# Altium schematic symbol library Passives.SchLib: 35 symbols
Pins are listed as number, name and electrical type; pins without a type are passive.

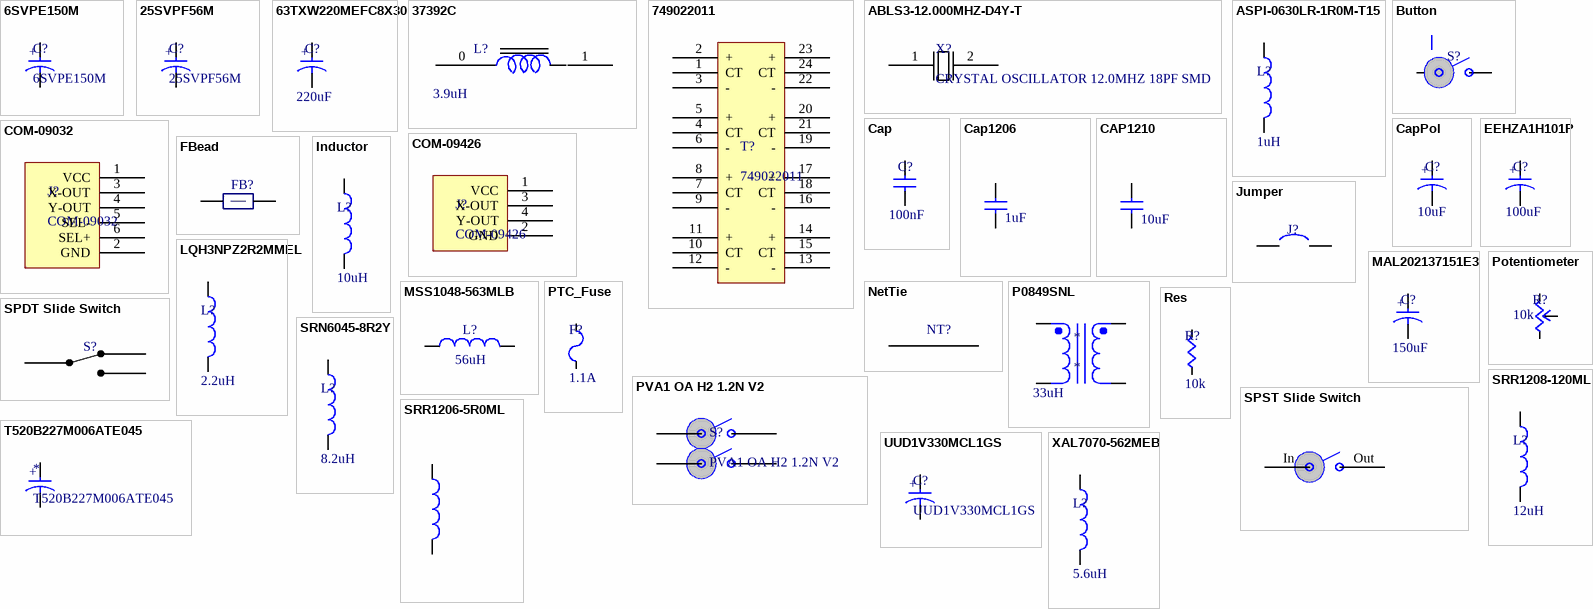
[diagram p0: symbols 6SVPE150M to XAL7070-562MEB]

## 6SVPE150M
designator C?
CAP POLYMER 150UF 20% 6.3V SMD; Manufacturer 1: Panasonic Electronic Components; Supplier 1: Digi-Key; Manufacturer Part Number 1: 6SVPE150M; Supplier Part Number 1: P16614CT-ND
footprint 6SVPE150M (CAP POLYMER 150UF 20% 6.3V SMD)
footprint PCV1J560MCL2GS
pins: 1 A, 2 B
text: +

## 25SVPF56M
designator C?
CAP POLYMER 56UF 20% 25V SMD; Manufacturer 1: Panasonic Electronic Components; Supplier 1: Digi-Key; Manufacturer Part Number 1: 25SVPF56M; Supplier Part Number 1: P16514CT-ND
footprint 25SVPF56M (CAP POLYMER 56UF 20% 25V SMD)
pins: 1 A, 2 B
text: +

## 63TXW220MEFC8X30
designator C?  value 220uF  (hidden comment: *)
CAP ALUM 220UF 63V 20% RADIAL; Supplier 1: Digi-Key; Supplier Part Number 1: 1189-1484-ND
footprint 63TXW220MEFC8X30
footprint 63TXW220MEFC8X30_inverted
pins: +, -

## 37392C
designator L?  (value not drawn)
INDUCTOR 3.90UH 10.0A SMD; Supplier 1: Digi-Key; Supplier Part Number 1: 811-2518-1-ND
footprint 37392C (INDUCTOR 3.90UH 10.0A SMD)
footprint 732-1247-1-ND (FIXED IND 68UH 3.2A 89 MOHM SMD)
footprint 732-1247-1-ND (FIXED IND 68UH 3.2A 89 MOHM SMD)
pins: 0, 1
text: 3.9uH

## 749022011
designator T?
TRANSFORMER LAN 10/100/1000 POE; Manufacturer 1: Wurth Electronics; Manufacturer Part Number 1: 749022011; Supplier 1: Digi-Key; Supplier Part Number 1: 732-3271-1-ND
footprint 749022011 (TRANSFORMER LAN 10/100/1000 POE)
pins: 1 CT, 2 +, 3 -, 4 CT, 5 +, 6 -, 7 CT, 8 +, 9 -, 10 CT, 11 +, 12 -, 13 -, 14 +, 15 CT, 16 -, 17 +, 18 CT, 19 -, 20 +, 21 CT, 22 -, 23 +, 24 CT

## ABLS3-12.000MHZ-D4Y-T
designator X?, comment CRYSTAL OSCILLATOR 12.0MHZ 18PF SMD
12MHz ±30ppm Crystal 18pF 50 Ohms HC-49/US; Manufacturer 1: Abracon LLC; Manufacturer Part Number 1: ABLS3-12.000MHZ-D4Y-T; Supplier 1: Digi-Key; Supplier Part Number 1: 535-10850-6-ND; ComponentLink1Description: Datasheet; ComponentLink1URL: https://abracon.com/Resonators/ABLS3.pdf; ComponentLink2Description: Website; ComponentLink2URL: https://www.digikey.com/product-detail/en/abracon-llc/ABLS3-12.000MHZ-D4Y-T/535-10850-6-ND/2624593
footprint ABLS3-12.000MHZ-D4Y-T
pins: 1, 2

## ASPI-0630LR-1R0M-T15
designator L?  Inductance: 1uH  (hidden comment: ASPI-0630LR-1R0M-T15)
FIXED IND 1UH 12A 9 MOHM SMD; Manufacturer 1: Abracon; Supplier 1: Digi-Key; Supplier Part Number 1: ASPI-0630LR-1R0M-T15CT-ND; Manufacturer Part Number 1: ASPI-0630LR-1R0M-T15
pins: 1 A, 2 B

## Button
designator S?  (value not drawn)
SPST Button; Supplier 1: Digi-Key; Supplier Part Number 1: CKN9087CT-ND
footprint PTS645xxxxSMTR92 (PTS645 Series SMT 6 mm Tactile Switch)
pins: A, B

## Cap
designator C?  value 100nF  (hidden comment: *)
Supplier 1: Digi-Key; Supplier Part Number 1: 1276-1000-1-ND
footprint CAPC0603 (Chip Capacitor, 2-Leads, Body 1.60x0.80mm, IPC Medium Density)
footprint CAPC1206 (Chip Capacitor, 2-Leads, Body 3.20x1.60mm, IPC Medium Density)
footprint CAPC0805 (Chip Capacitor, 2-Leads, Body 2.01x1.25mm, IPC Medium Density)
footprint CAPC0402 (Chip Capacitor, 2-Leads, Body 1.00x0.50mm, IPC Medium Density)
footprint CAP2225 (Chip Capacitor, 2-Leads, Body 5.60x6.40mm, IPC Medium Density)
footprint CAP1808 (Chip Capacitor, 2-Leads, Body 4.50x2.00mm, IPC Medium Density)
footprint CAP1210
pins: 1 A, 2 B

## Cap1206
designator C?  value 1uF
CAP CER 1UF 50V 10% X7R 1206; Supplier 1: Digi-Key; Supplier Part Number 1: 587-2230-1-ND
footprint CAP1206
pins: 1 A, 2 B

## CAP1210
designator C?  value 10uF
CAP CER 10UF 50V 20% X5R 1210; Supplier 1: Digi-Key; Supplier Part Number 1: 587-2225-1-ND
footprint CAP1210
pins: 1 A, 2 B

## CapPol
designator C?, comment value 10uF  (hidden comment: Cap Tant)
CAP TANT 47UF 10V 10% 1411; Supplier 1: Digi-Key; Supplier Part Number 1: 399-9728-1-ND
footprint CAPP0603 (Chip Capacitor, 2-Leads, Body 1.60x0.80mm, IPC Medium Density)
footprint CAP1000uF (CAP ALUM 1000UF 50V 20% RADIAL)
footprint CAP22uF100V (CAP ALUM 22UF 100V 20% RADIAL)
footprint ELXZ500ELL680MF15D (CAP ALUM 68UF 50V 20% RADIAL)
footprint UPW1E121MED (CAP ALUM 120UF 25V 20% RADIAL)
footprint EEE-FT1H221AP (CAP ALUM 220UF 50V 20% SMD)
footprint cap10uf
footprint EKMH500VSN562MQ40T
footprint 1206
footprint XH414HG-IV01E (CAP 80MF 3.3V SURFACE MOUNT)
footprint CAP56UF
footprint PCV1J560MCL2GS
footprint 565-1720-ND (CAP ALUM 56UF 20% 63V RADIAL 0.315" diameter and 0.512" height)
footprint ESY227M050AH2AA
pins: 1 A, 2 B
text: +

## COM-09032
designator J?
2 Axis 10 kOhms Through Hole Joystick Potentiometer; Manufacturer 1: SparkFun Electronics; ComponentLink1: Datasheet; Supplier 1: Digi-Key; Supplier Part Number 1: 1568-1526-ND; Manufacturer Part Number 1: COM-09032; ComponentLink1URL: https://media.digikey.com/pdf/Data%20Sheets/Sparkfun%20PDFs/COM-09032_Web.pdf; ComponentLink2: *; ComponentLink2URL: https://www.sparkfun.com/products/9032
footprint Joystick (Footprint for COM-09426 and COM-09032)
pins: 1 VCC, 2 GND, 3 X-OUT, 4 Y-OUT, 5 SEL-, 6 SEL+

## COM-09426
designator J?
2 Axis Panel Mount Joystick Potentiometer; Manufacturer 1: SparkFun Electronics; Supplier 1: Digi-Key; Supplier Part Number 1: COM-09426-ND; Manufacturer Part Number 1: COM-09426; ComponentLink1URL: https://media.digikey.com/pdf/Data%20Sheets/Sparkfun%20PDFs/COM-09426_Web.pdf; ComponentLink1Description: Datasheet; ComponentLink2URL: https://www.sparkfun.com/products/9426; ComponentLink2Description: Website
footprint Joystick (Footprint for COM-09426 and COM-09032)
pins: 1 VCC, 2 GND, 3 X-OUT, 4 Y-OUT

## EEHZA1H101P
designator C?  value 100uF  (hidden comment: EEHZA1H101P)
CAP ALUM POLY HYB 100UF 50V SMD; Manufacturer 1: Panasonic; Tolerance: 20%; Supplier 1: Digi-Key; Supplier Part Number 1: P15442CT-ND; Manufacturer Part Number 1: EEHZA1H101P; Voltage: 50V; ComponentLink1URL: https://na.industrial.panasonic.com/products/capacitors/aluminum-electrolytic-capacitors/conductive-polymer-hybrid-aluminum-electrolytic/series/za-high-temp-reflow/ABA0135/model/EEHZA1H101P; ComponentLink1Description: Web Site; ComponentLink2URL: https://industrial.panasonic.com/cdbs/www-data/pdf/RDD0000/ABA0000C1221.pdf; ComponentLink2Description: Data Sheet; ComponentLink3URL: https://industrial.panasonic.com/cdbs/www-data/pdf/RDD0000/ABA0000COS44.pdf; ComponentLink3Description: ZA Series Technical Data
footprint EEHZA1H101P (CAP ALUM POLY HYB 100UF 50V SMD)
pins: 1, 2
text: +

## FBead
designator FB?  (value not drawn)
Ferrite Bead; Supplier 1: Digi-Key; Supplier Part Number 1: 445-2988-1-ND
footprint RES0603 (Chip Resistor, 2-Leads, Body 1.60x0.80mm, IPC Medium Density)
pins: 1 A, 2 B

## Inductor
designator L?  Inductance: 10uH  (hidden comment: *)
Supplier 1: Digi-Key; Supplier Part Number 1: ?
footprint SLF7045 (Indufctors for Power Circuits Wound Ferrite)
footprint IHLP-6767 (Low profile, high current IHLP inductor)
footprint SLF7045T-101MR50-PF (INDUCTOR SHIELD PWR 100UH 7045)
footprint CDPH4D19F (SMD Power Inductor)
footprint RLS-567-R
pins: 1 A, 2 B

## Jumper
designator J?  (value not drawn)
Single Jumper on 1x2 Male Header
footprint HEADER_MALE_1X2
pins: 1, 2

## LQH3NPZ2R2MMEL
designator L?  Inductance: 2.2uH  (hidden comment: LQH3NPZ2R2MMEL)
Manufacturer 1: Murata Electronics North America; Supplier 1: Digi-Key; Supplier Part Number 1: 490-15973-1-ND; Manufacturer Part Number 1: LQH3NPZ2R2MMEL
footprint LQH3NPZ2R2MMEL (FIXED IND 2.2UH 2.1A 78 MOHM)
pins: 1 A, 2 B

## MAL202137151E3
designator C?  value 150uF  (hidden comment: *)
CAP ALUM 150UF 40V 20% AXIAL; Supplier 1: Digi-Key; Supplier Part Number 1: 4050PHCT-ND
footprint MAL202137151E3
pins: +, -

## MSS1048-563MLB
designator L?  value 56uH  (hidden comment: MSS1048-563MLB)
FIXED IND 56UH 1.7A 126 MOHM; Manufacturer 1: Coilcraft; Manufacturer Part Number 1: MSS1048-563MLB; ComponentLink1Description: Web Site; ComponentLink1URL: https://www.coilcraft.com/mss1048.cfm; Supplier 1: Coilcraft; Supplier Part Number 1: MSS1048-563MLB
footprint MSS1048-563MLB (FIXED IND 56UH 1.7A 126 MOHM)
pins: 1, 2

## NetTie
designator NT?  (value not drawn)  (net tie, no BOM)
Ties two nets together
footprint NT_5mil (Thin Net Tie)
pins: 1, 2

## P0849SNL
designator *  Inductance: 33uH
footprint PULSE_BIGFOOT (SMT Power Inductor)
pins: 1 (power), 2 (power), 3 (power), 4 (power)

## Potentiometer
designator R?, comment value 10k  (hidden comment: Pot)
Potentiometer; Supplier 1: Digi-Key; Supplier Part Number 1: ST4ETA103CT-ND
footprint ST4ETA103 (TRIMMER 10K OHM 0.25W SMD)
pins: 1, 2, 3

## PTC_Fuse
designator F?, comment value 1.1A  (hidden comment: PTC Fuse)
Supplier 1: Digi-Key; Supplier Part Number 1: 507-1744-1-ND
footprint PTC7451X11N (Chip PTC, 2920, 7351 metric 2-Leads, Body 7.36x5.12mm, IPC Medium Density)
pins: 1 A, 2 B

## PVA1 OA H2 1.2N V2
designator S?
Pushbutton Switch DPST-NO Keyswitch Through Hole; Manufacturer: C&K; Supplier 1: Digi-Key; Supplier Part Number 1: 401-1135-ND; Manufacturer Part Number: PVA1 OA H2 1.2N V2; ComponentLink1URL: https://www.ckswitches.com/media/1343/pva.pdf; ComponentLink1Description: Datasheet; ComponentLink2URL: *
footprint PVA1 OA H2 1.2N V2
pins: 1, 2, 3, 4

## Res
designator R?  value 10k  (hidden comment: *)
Supplier 1: Digi-Key; Supplier Part Number 1: RMCF0603JT10K0CT-ND
footprint RES0603 (Chip Resistor, 2-Leads, Body 1.60x0.80mm, IPC Medium Density)
footprint FMP300 (Power resistor)
footprint FMP200 (Power resistor Yageo 2W)
footprint RES0402 (Chip Resistor, 2-Leads, Body 1.00x0.50mm, changed from previous)
footprint RES2512 (Chip Resistor, 2-Leads, Body 6.35x3.20mm, IPC Medium Density)
footprint RES1206 (Chip Resistor, 2-Leads, Body 3.20x1.60mm, IPC Medium Density)
footprint RES0805 (Chip Resistor, 2-Leads, Body 2.01x1.25mm, IPC Medium Density)
footprint WSBM8518L1000JT-MOLEX_2 (2 shunt resistor pins of MOLEX type WSBM8518L1000JT)
pins: 1 A, 2 B

## SPDT Slide Switch
designator S?  (value not drawn)
Supplier 1: Digi-Key; Supplier Part Number 1: 563-1318-1-ND
footprint CL-SB-12B-01T (SWITCH SLIDE SPDT 200MA 12V)
pins: 1, 2, 3

## SPST Slide Switch
designator SW?, comment 360-2610-ND
SPST Slide Switch; Supplier 1: Digi-Key; Supplier Part Number 1: 360-2610-ND
footprint AS11CP (SPST Slide Switch)
pins: In, Out

## SRN6045-8R2Y
designator L?  Inductance: 8.2uH  (hidden comment: SRN6045-8R2Y)
FIXED IND 8.2UH 2.7A 55 MOHM SMD; Manufacturer 1: Bourns Inc; Supplier 1: Digi-Key; Supplier Part Number 1: SRN6045-8R2YCT-ND; Manufacturer Part Number 1: SRN6045-8R2Y
footprint SRN6045 Series Inductor (SRN 6045 Series Inductor Bourns Inc)
pins: 1 A, 2 B

## SRR1206-5R0ML
designator L?, comment 5uH
FIXED IND 5UH 4.7A 22 MOHM SMD; Supplier 1: Digi-Key; Supplier Part Number 1: SRR1206-5R0MLCT-ND
footprint IND_2 (Inductor)
pins: 1 A, 2 B

## SRR1208-120ML
designator L?  Inductance: 12uH  (hidden comment: SRR1208-120ML)
FIXED IND 12UH 4.8A 25 MOHM SMD; Manufacturer 1: Bourns Inc; Supplier 1: Digi-Key; Supplier Part Number 1: SRR1208-120MLCT-ND; Manufacturer Part Number 1: SRR1208-120ML
footprint SRR1208 Series (SSR1208 Series Inductor from Bourns Inc)
pins: 1 A, 2 B

## T520B227M006ATE045
designator *
CAP TANT POLY 220UF 6.3V 1411; Manufacturer 1: Kemet; Manufacturer Part Number 1: T520B227M006ATE045; Supplier 1: Digi-Key; Supplier Part Number 1: 399-5755-1-ND
footprint C1411-molded,polarized (Molded Capacitor, 2-Leads, Body 3.50x2.80mm, IPC Medium Density)
pins: 1 A, 2 B
text: +

## UUD1V330MCL1GS
designator C?
CAP ALUM 33UF 20% 35V SMD; Manufacturer 1: Nichicon; Supplier 1: Digi-Key; Manufacturer Part Number 1: UUD1V330MCL1GS; Supplier Part Number 1: 493-2286-1-ND
footprint UUD1V330MCL1GS (CAP ALUM 33UF 20% 35V SMD)
pins: 1 A, 2 B
text: +

## XAL7070-562MEB
designator L?  Inductance: 5.6uH  (hidden comment: XAL7070-562MEB)
FIXED IND 5.6UH 13A 13.67 MOHM SMD; Manufacturer 1: Coil Craft; Manufacturer Part Number 1: XAL7070-562MEB
footprint XAL7070-562MEB (5.6uH inductor)
pins: 1 A, 2 B